# Altium schematic symbol library FWJ-04-01-T-S.SchLib: 1 symbol
Pins are listed as number, name and electrical type; pins without a type are passive.

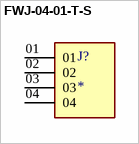
[diagram p0: symbol FWJ-04-01-T-S]

## FWJ-04-01-T-S
designator J?
Connector Header Through Hole 4 position 0.156 (3.96mm); MP: FWJ-04-01-T-S; MF: Samtec; Availability: Bad; Package: None; Check_prices: https://www.snapeda.com/parts/FWJ-04-01-T-S/Samtec/view-part/3573755/?ref=eda; Price: None; SnapEDA_Link: https://www.snapeda.com/parts/FWJ-04-01-T-S/Samtec/view-part/3573755/?ref=snap; Purchase-URL: https://pricing.snapeda.com/search/part/FWJ-04-01-T-S/?ref=eda; Value: *
footprint SAMTEC_FWJ-04-01-T-S
pins: 01, 02, 03, 04